# Altium footprint library 5V_REG.PcbLib: 1 footprints
Each footprint in its own frame and in the unit in brackets; x right, y up, seen from the top. Pads: shape width x height; smd on the part's side, far side on the other; paste and mask are expansions set on the pad; w line width, h text height; cw(c..) or ccw(c..) is an arc to the next point about the centre after c.
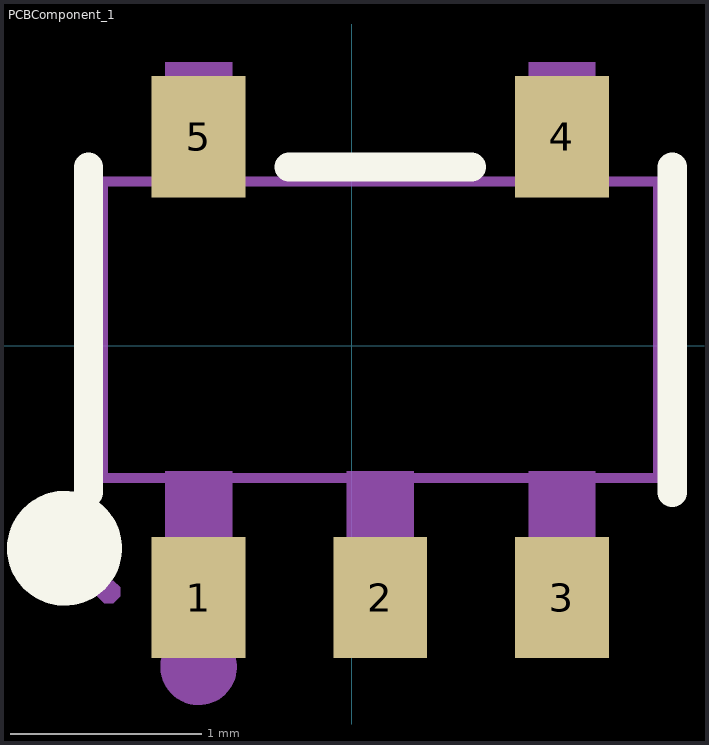
[diagram p0: the footprint, top view; thin cyan lines are the x and y axes]

## PCBComponent_1 [mm] "SOT-23-5_L3.0-W1.7-P0.95-LS2.8-BL"
pads (5):
  rect 0.49x0.635 smd paste+0 mask+0.051: 1(-0.8,-1.315) 2(0.15,-1.315) 3(1.1,-1.315) 4(1.1,1.095) 5(-0.8,1.095)
Top Overlay:
  circle w0.3: c-1.501,-1.058 r0.15
  lines w0.152: -1.376,-0.767 -1.376,0.936 ; -0.326,0.936 0.627,0.936 ; 1.676,-0.767 1.676,0.936
Mechanical 6:
  circle w0.2: c-0.8,-1.678 r0.1
Mechanical 15:
  region: -0.975,-1.315 -0.975,-0.915 -0.625,-0.915 -0.625,-1.315
  region: -0.975,-0.925 -0.975,-0.655 -0.625,-0.655 -0.625,-0.925
  region: -0.025,-1.315 -0.025,-0.915 0.325,-0.915 0.325,-1.315
  region: -0.025,-0.925 -0.025,-0.655 0.325,-0.655 0.325,-0.925
  region: 0.925,-1.315 0.925,-0.915 1.275,-0.915 1.275,-1.315
  region: 0.925,-0.925 0.925,-0.655 1.275,-0.655 1.275,-0.925
  region: 0.925,1.085 0.925,1.485 1.275,1.485 1.275,1.085
  region: 0.925,0.825 0.925,1.095 1.275,1.095 1.275,0.825
  region: -0.975,1.085 -0.975,1.485 -0.625,1.485 -0.625,1.085
  region: -0.975,0.825 -0.975,1.095 -0.625,1.095 -0.625,0.825
  region: -1.21,-1.285 -1.211,-1.261 -1.246,-1.227 -1.295,-1.227 -1.329,-1.261 -1.33,-1.285 -1.329,-1.31 -1.294,-1.344 -1.245,-1.344 -1.211,-1.31
  lines w0.051: -1.3,-0.69 -1.3,0.86 1.6,0.86 1.6,-0.69 -1.3,-0.69
3D body "SOT23-5.step": height 1.1, standoff 0, extent -1.349,-1.357 1.651,1.143